# EAGLE library part ESP32-PICO-D4 (library IoTMakers)
ESP32-PICO-D4 The ESP32-PICO-D4 is a System-in-Package (SIP) module that is based on ESP32, providing complete Wi-Fi and Bluetooth functionalities. The module has a size as small as 7.0±0.1 mm×7.0±0.1 mm×0.94±0.1 mm, thus requiring minimal PCB area. The module integrates a 4-MB SPI flash
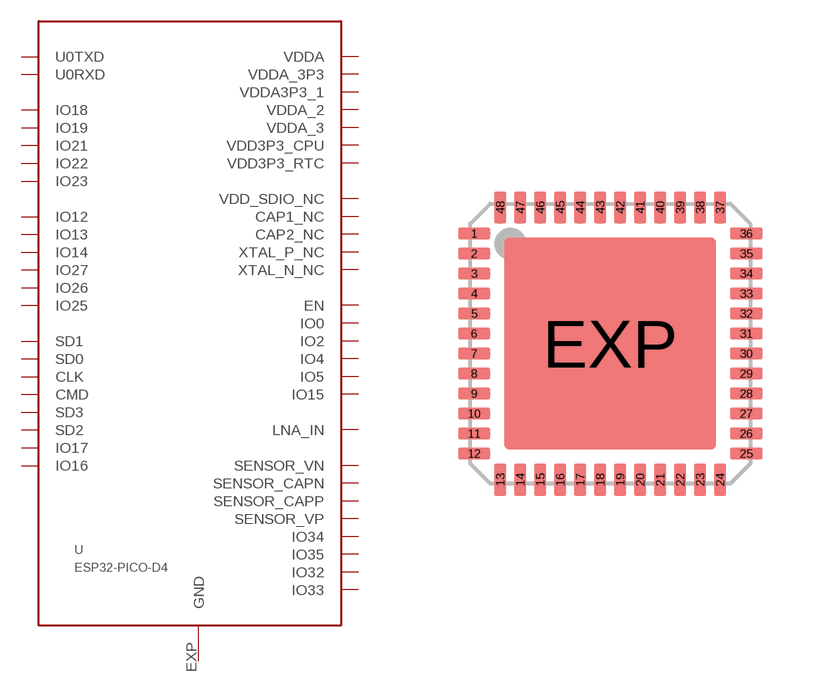
[diagram p0: symbol with the pads of QFN48; footprint QFN48]

Designator prefix -

## ESP32-PICO-D4  [QFN48]
1  VDDA
2  LNA_IN
3  VDDA3P3_1
4  VDDA_3P3
5  SENSOR_VP
6  SENSOR_CAPP
7  SENSOR_CAPN  pwr
8  SENSOR_VN
9  EN
10  IO34
11  IO35
12  IO32
13  IO33
14  IO25
15  IO26
16  IO27
17  IO14
18  IO12  pwr
19  VDD3P3_RTC
20  IO13
21  IO15
22  IO2
23  IO0
24  IO4
25  IO16
26  VDD_SDIO_NC
27  IO17
28  SD2
29  SD3
30  CMD
31  CLK
32  SD0
33  SD1
34  IO5
35  IO18
36  IO23
37  VDD3P3_CPU
38  IO19
39  IO22
40  U0RXD
41  U0TXD
42  IO21  pwr
43  VDDA_2
44  XTAL_N_NC
45  XTAL_P_NC
46  VDDA_3
47  CAP2_NC
48  CAP1_NC
EXP  GND

## Footprint QFN48 (pad centres in mm)
48-pin QFN 7 x 7 mm LF48 48 Quad Flat Package No Leads Source: http://v4.cypress.com/cfuploads/img/products/cywusb6934.pdf
smd 0.813 x 0.305: 1 -3.404,2.75; 2 -3.404,2.25; 3 -3.404,1.75; 4 -3.404,1.25; 5 -3.404,0.75; 6 -3.404,0.25; 7 -3.404,-0.25; 8 -3.404,-0.75; 9 -3.404,-1.25; 10 -3.404,-1.75; 11 -3.404,-2.25; 12 -3.404,-2.75; 25 3.404,-2.75; 26 3.404,-2.25; 27 3.404,-1.75; 28 3.404,-1.25; 29 3.404,-0.75; 30 3.404,-0.25; 31 3.404,0.25; 32 3.404,0.75; 33 3.404,1.25; 34 3.404,1.75; 35 3.404,2.25; 36 3.404,2.75
smd 0.305 x 0.813: 13 -2.75,-3.404; 14 -2.25,-3.404; 15 -1.75,-3.404; 16 -1.25,-3.404; 17 -0.75,-3.404; 18 -0.25,-3.404; 19 0.25,-3.404; 20 0.75,-3.404; 21 1.25,-3.404; 22 1.75,-3.404; 23 2.25,-3.404; 24 2.75,-3.404; 37 2.75,3.404; 38 2.25,3.404; 39 1.75,3.404; 40 1.25,3.404; 41 0.75,3.404; 42 0.25,3.404; 43 -0.25,3.404; 44 -0.75,3.404; 45 -1.25,3.404; 46 -1.75,3.404; 47 -2.25,3.404; 48 -2.75,3.404
smd 5.309 x 5.309: EXP 0,0